# EAGLE library part HUZZAH32 (library zumo)
Adafruit HUZZAH32 ESP32 breakout with USB and LiPo battery backup connectors.
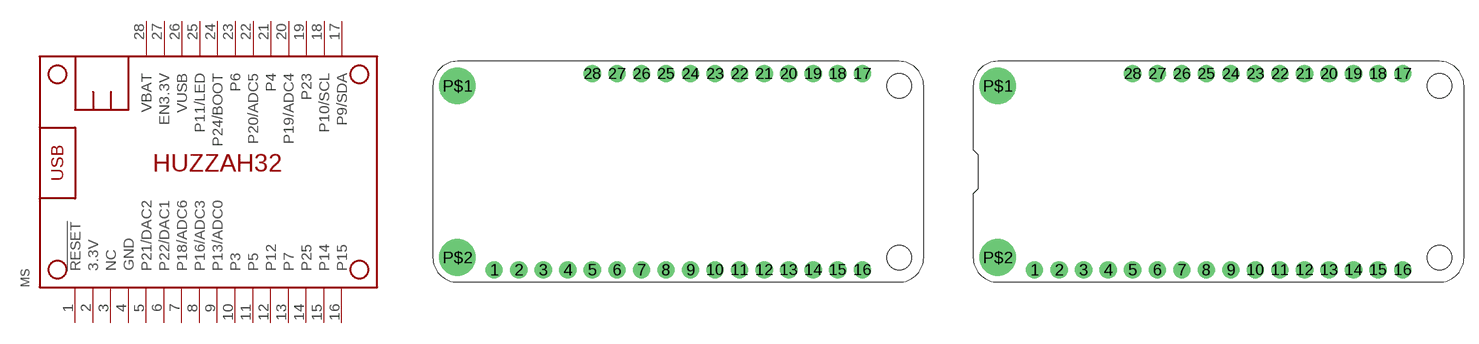
[diagram p1: symbol with the pads of FEATHERWING; footprints FEATHERWING, FEATHERWING_DIM]

Designator prefix MS

## HUZZAH32  [FEATHERWING]
1  !RESET  in
2  3.3V  sup
3  NC  nc
4  GND  pwr
5  P21/DAC2
6  P22/DAC1
7  P18/ADC6
8  P16/ADC3
9  P13/ADC0
10  P3
11  P5
12  P12
13  P7
14  P25
15  P14
16  P15
17  P9/SDA
18  P10/SCL
19  P23
20  P19/ADC4
21  P4
22  P20/ADC5
23  P6
24  P24/BOOT
25  P11/LED
26  VUSB  sup
27  EN3.3V  pas
28  VBAT  sup

## HUZZAH32_NODIM  [FEATHERWING_DIM]
Pads as for FEATHERWING

## Footprint FEATHERWING (pad centres in mm)
drill 1 pad 1.778: 1 6.35,1.27; 2 8.89,1.27; 3 11.43,1.27; 4 13.97,1.27; 5 16.51,1.27; 6 19.05,1.27; 7 21.59,1.27; 8 24.13,1.27; 9 26.67,1.27; 10 29.21,1.27; 11 31.75,1.27; 12 34.29,1.27; 13 36.83,1.27; 14 39.37,1.27; 15 41.91,1.27; 16 44.45,1.27; 17 44.45,21.59; 18 41.91,21.59; 19 39.37,21.59; 20 36.83,21.59; 21 34.29,21.59; 22 31.75,21.59; 23 29.21,21.59; 24 26.67,21.59; 25 24.13,21.59; 26 21.59,21.59; 27 19.05,21.59; 28 16.51,21.59
drill 2.5 pad 3.81: P$1 2.54,20.32; P$2 2.54,2.54
hole 2.54 at 48.26,20.32
hole 2.54 at 48.26,2.54

## Footprint FEATHERWING_DIM (pad centres in mm)
drill 1 pad 1.778: 1 6.35,1.27; 2 8.89,1.27; 3 11.43,1.27; 4 13.97,1.27; 5 16.51,1.27; 6 19.05,1.27; 7 21.59,1.27; 8 24.13,1.27; 9 26.67,1.27; 10 29.21,1.27; 11 31.75,1.27; 12 34.29,1.27; 13 36.83,1.27; 14 39.37,1.27; 15 41.91,1.27; 16 44.45,1.27; 17 44.45,21.59; 18 41.91,21.59; 19 39.37,21.59; 20 36.83,21.59; 21 34.29,21.59; 22 31.75,21.59; 23 29.21,21.59; 24 26.67,21.59; 25 24.13,21.59; 26 21.59,21.59; 27 19.05,21.59; 28 16.51,21.59
drill 2.5 pad 3.81: P$1 2.54,20.32; P$2 2.54,2.54
hole 2.54 at 48.26,20.32
hole 2.54 at 48.26,2.54